# EAGLE library part H3LIS331DLTR (library H3LIS331DLTR)
Accelerometers Low Pwr Hi G 3-axis Digital Acceleromtr Source: Datasheet <https://www.st.com/resource/en/datasheet/h3lis331dl.pdf>
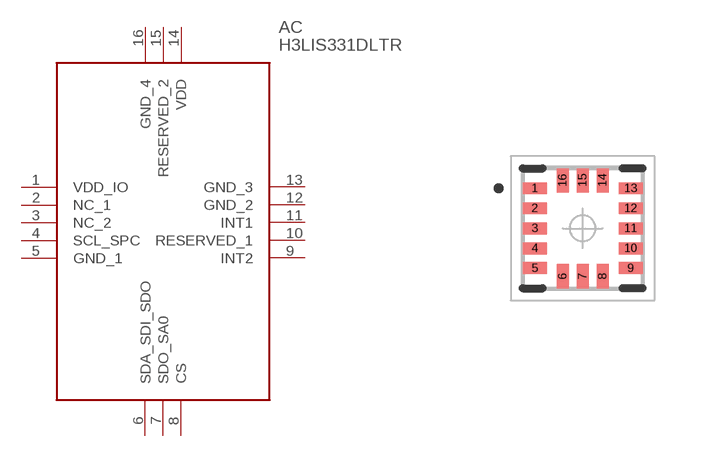
[diagram p0: symbol with the pads of LIS3DHTR; footprint LIS3DHTR]

Designator prefix AC

## H3LIS331DLTR (Description: Accelerometers Low Pwr Hi G 3-axis Digital Acceleromtr; Height: 1mm; Manufacturer_Name: STMicroelectronics; Manufacturer_Part_Number: H3LIS331DLTR; Mouser_Part_Number: 511-H3LIS331DLTR; Mouser_Price-Stock: https://www.mouser.co.uk/ProductDetail/STMicroelectronics/H3LIS331DLTR?qs=TAo1I7FhABsAZFqkqNUSRA%3D%3D)  [LIS3DHTR]
1  VDD_IO  pwr
2  NC_1
3  NC_2
4  SCL_SPC
5  GND_1  pwr
6  SDA_SDI_SDO
7  SDO_SA0
8  CS  in
9  INT2  in
10  RESERVED_1
11  INT1  in
12  GND_2  pwr
13  GND_3  pwr
14  VDD  pwr
15  RESERVED_2
16  GND_4  pwr

## Footprint LIS3DHTR (pad centres in mm)
LGA-16_2
smd 0.6 x 0.3: 1 -1.2,1; 2 -1.2,0.5; 3 -1.2,0; 4 -1.2,-0.5; 5 -1.2,-1; 9 1.2,-1; 10 1.2,-0.5; 11 1.2,0; 12 1.2,0.5; 13 1.2,1
smd 0.3 x 0.6: 6 -0.5,-1.2; 7 0,-1.2; 8 0.5,-1.2; 14 0.5,1.2; 15 0,1.2; 16 -0.5,1.2